# Altium footprint library Diod.PcbLib: 392 footprints (part 2 of 25)
Each footprint in its own frame and in the unit in brackets; x right, y up, seen from the top. Pads: shape width x height; smd on the part's side, far side on the other; paste and mask are expansions set on the pad; w line width, h text height; cw(c..) or ccw(c..) is an arc to the next point about the centre after c.
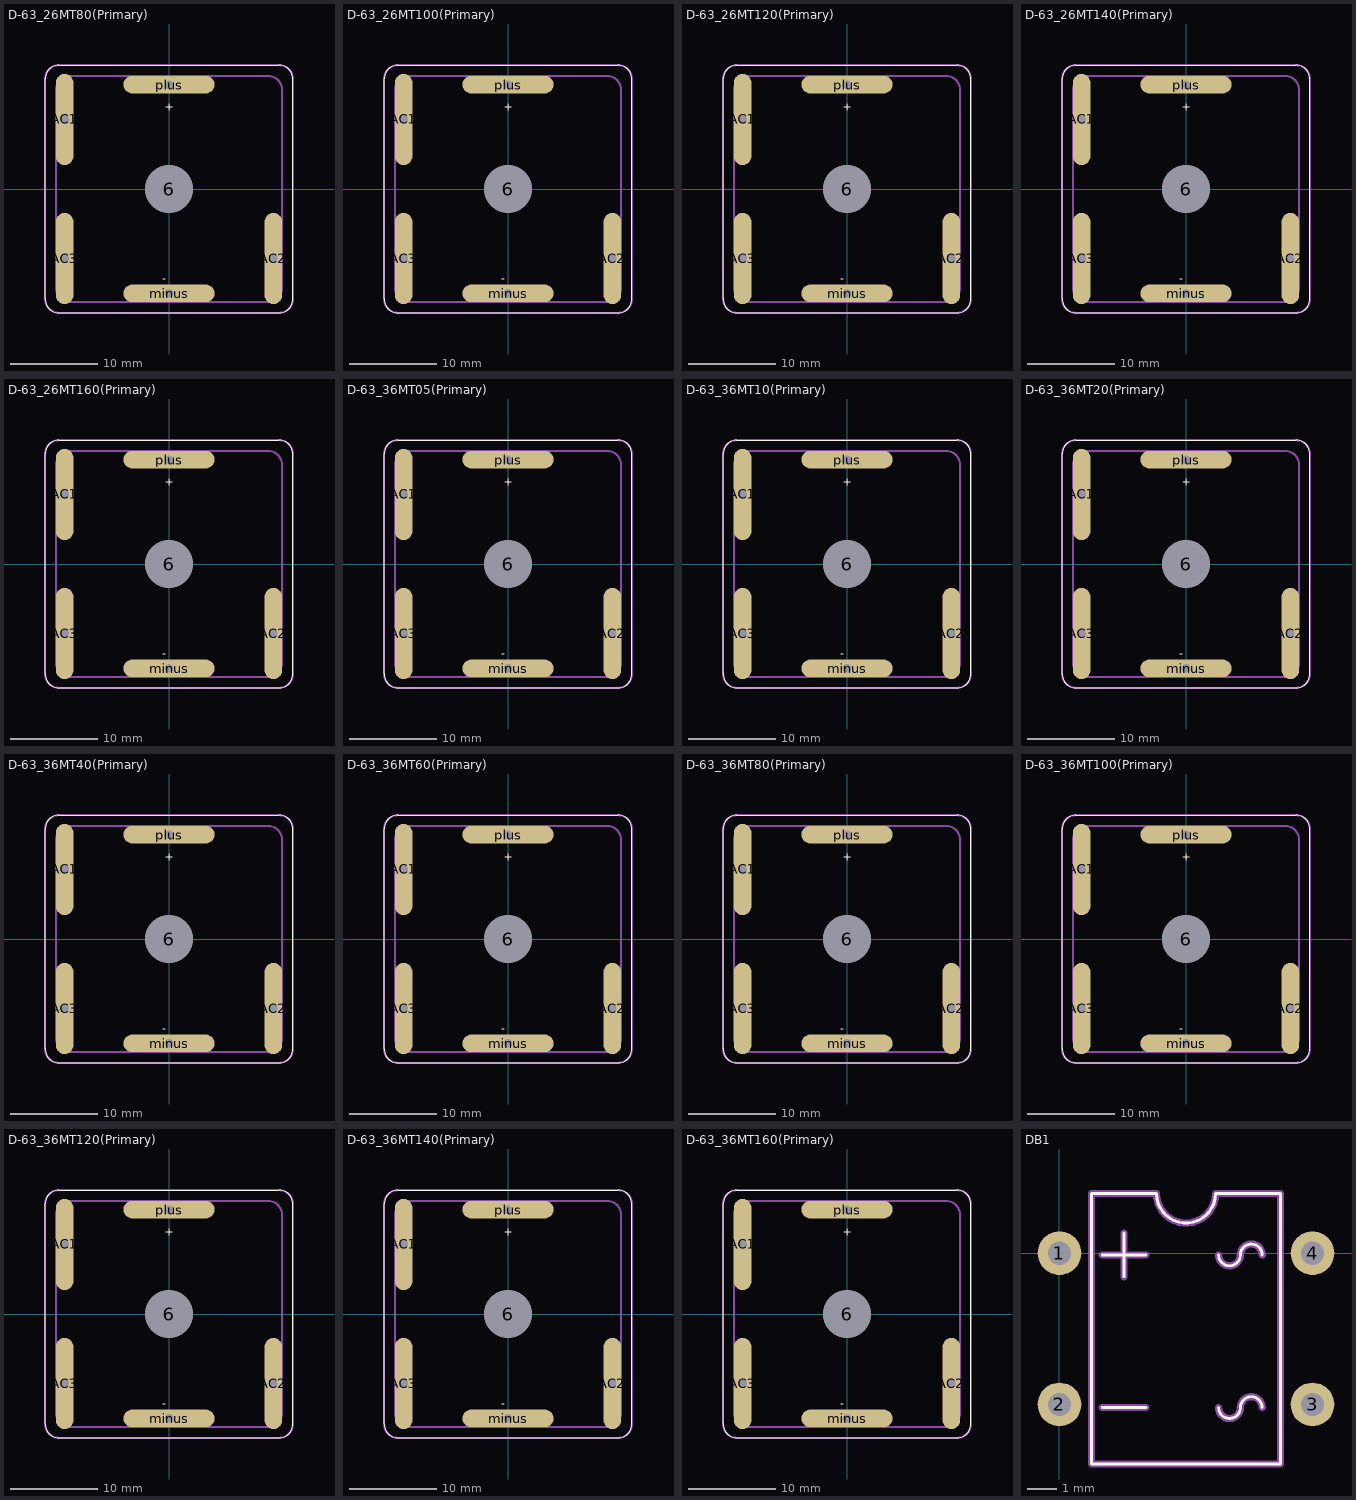
[diagram p1: the footprints below, top view; thin cyan lines are the x and y axes]

## D-63_26MT80(Primary) [mm]
pads (6):
  round 5.5 hole 5.5 unplated: 6(0,0)
  oval 2x10.5 hole 1: AC1(-12,8) AC2(12,-8) AC3(-12,-8)
  oval 10.5x2 hole 1: minus(0,-12) plus(0,12)
Top Overlay:
  lines w0.1: -14.25,-12.65 ccw(c-12.65,-12.65) -12.65,-14.25 12.65,-14.25 ccw(c12.65,-12.65) 14.25,-12.65 14.25,12.65 ccw(c12.65,12.65) 12.65,14.25 -12.65,14.25 ccw(c-12.65,12.65) -14.25,12.65 -14.25,-12.65
  text "+" at -0.5,9 h0.94
  text "-" at -0.75,-10.75 h0.94
Keep-Out Layer:
  lines w0.25: -12.5,-11.75 ccw(c-12,-11.75) -11.5,-11.75 -11.5,-4.25 ccw(c-12,-4.25) -12.5,-4.25 -12.5,-11.75 ; -12.5,4.25 ccw(c-12,4.25) -11.5,4.25 -11.5,11.75 ccw(c-12,11.75) -12.5,11.75 -12.5,4.25 ; -3.75,-12.5 cw(c-3.75,-12) -3.75,-11.5 3.75,-11.5 cw(c3.75,-12) 3.75,-12.5 -3.75,-12.5 ; -3.75,11.5 cw(c-3.75,12) -3.75,12.5 3.75,12.5 cw(c3.75,12) 3.75,11.5 -3.75,11.5 ; 11.5,-11.75 ccw(c12,-11.75) 12.5,-11.75 12.5,-4.25 ccw(c12,-4.25) 11.5,-4.25 11.5,-11.75
Mechanical 1:
  lines w0.25: -14.25,-12.65 ccw(c-12.65,-12.65) -12.65,-14.25 12.65,-14.25 ccw(c12.65,-12.65) 14.25,-12.65 14.25,12.65 ccw(c12.65,12.65) 12.65,14.25 -12.65,14.25 ccw(c-12.65,12.65) -14.25,12.65 -14.25,-12.65 ; -13,-11.4 ccw(c-11.4,-11.4) -11.4,-13 11.4,-13 ccw(c11.4,-11.4) 13,-11.4 13,11.4 ccw(c11.4,11.4) 11.4,13 -11.4,13 ccw(c-11.4,11.4) -13,11.4 -13,-11.4

## D-63_26MT100(Primary) [mm]
pads (6):
  round 5.5 hole 5.5 unplated: 6(0,0)
  oval 2x10.5 hole 1: AC1(-12,8) AC2(12,-8) AC3(-12,-8)
  oval 10.5x2 hole 1: minus(0,-12) plus(0,12)
Top Overlay:
  lines w0.1: -14.25,-12.65 ccw(c-12.65,-12.65) -12.65,-14.25 12.65,-14.25 ccw(c12.65,-12.65) 14.25,-12.65 14.25,12.65 ccw(c12.65,12.65) 12.65,14.25 -12.65,14.25 ccw(c-12.65,12.65) -14.25,12.65 -14.25,-12.65
  text "+" at -0.5,9 h0.94
  text "-" at -0.75,-10.75 h0.94
Keep-Out Layer:
  lines w0.25: -12.5,-11.75 ccw(c-12,-11.75) -11.5,-11.75 -11.5,-4.25 ccw(c-12,-4.25) -12.5,-4.25 -12.5,-11.75 ; -12.5,4.25 ccw(c-12,4.25) -11.5,4.25 -11.5,11.75 ccw(c-12,11.75) -12.5,11.75 -12.5,4.25 ; -3.75,-12.5 cw(c-3.75,-12) -3.75,-11.5 3.75,-11.5 cw(c3.75,-12) 3.75,-12.5 -3.75,-12.5 ; -3.75,11.5 cw(c-3.75,12) -3.75,12.5 3.75,12.5 cw(c3.75,12) 3.75,11.5 -3.75,11.5 ; 11.5,-11.75 ccw(c12,-11.75) 12.5,-11.75 12.5,-4.25 ccw(c12,-4.25) 11.5,-4.25 11.5,-11.75
Mechanical 1:
  lines w0.25: -14.25,-12.65 ccw(c-12.65,-12.65) -12.65,-14.25 12.65,-14.25 ccw(c12.65,-12.65) 14.25,-12.65 14.25,12.65 ccw(c12.65,12.65) 12.65,14.25 -12.65,14.25 ccw(c-12.65,12.65) -14.25,12.65 -14.25,-12.65 ; -13,-11.4 ccw(c-11.4,-11.4) -11.4,-13 11.4,-13 ccw(c11.4,-11.4) 13,-11.4 13,11.4 ccw(c11.4,11.4) 11.4,13 -11.4,13 ccw(c-11.4,11.4) -13,11.4 -13,-11.4

## D-63_26MT120(Primary) [mm]
pads (6):
  round 5.5 hole 5.5 unplated: 6(0,0)
  oval 2x10.5 hole 1: AC1(-12,8) AC2(12,-8) AC3(-12,-8)
  oval 10.5x2 hole 1: minus(0,-12) plus(0,12)
Top Overlay:
  lines w0.1: -14.25,-12.65 ccw(c-12.65,-12.65) -12.65,-14.25 12.65,-14.25 ccw(c12.65,-12.65) 14.25,-12.65 14.25,12.65 ccw(c12.65,12.65) 12.65,14.25 -12.65,14.25 ccw(c-12.65,12.65) -14.25,12.65 -14.25,-12.65
  text "+" at -0.5,9 h0.94
  text "-" at -0.75,-10.75 h0.94
Keep-Out Layer:
  lines w0.25: -12.5,-11.75 ccw(c-12,-11.75) -11.5,-11.75 -11.5,-4.25 ccw(c-12,-4.25) -12.5,-4.25 -12.5,-11.75 ; -12.5,4.25 ccw(c-12,4.25) -11.5,4.25 -11.5,11.75 ccw(c-12,11.75) -12.5,11.75 -12.5,4.25 ; -3.75,-12.5 cw(c-3.75,-12) -3.75,-11.5 3.75,-11.5 cw(c3.75,-12) 3.75,-12.5 -3.75,-12.5 ; -3.75,11.5 cw(c-3.75,12) -3.75,12.5 3.75,12.5 cw(c3.75,12) 3.75,11.5 -3.75,11.5 ; 11.5,-11.75 ccw(c12,-11.75) 12.5,-11.75 12.5,-4.25 ccw(c12,-4.25) 11.5,-4.25 11.5,-11.75
Mechanical 1:
  lines w0.25: -14.25,-12.65 ccw(c-12.65,-12.65) -12.65,-14.25 12.65,-14.25 ccw(c12.65,-12.65) 14.25,-12.65 14.25,12.65 ccw(c12.65,12.65) 12.65,14.25 -12.65,14.25 ccw(c-12.65,12.65) -14.25,12.65 -14.25,-12.65 ; -13,-11.4 ccw(c-11.4,-11.4) -11.4,-13 11.4,-13 ccw(c11.4,-11.4) 13,-11.4 13,11.4 ccw(c11.4,11.4) 11.4,13 -11.4,13 ccw(c-11.4,11.4) -13,11.4 -13,-11.4

## D-63_26MT140(Primary) [mm]
pads (6):
  round 5.5 hole 5.5 unplated: 6(0,0)
  oval 2x10.5 hole 1: AC1(-12,8) AC2(12,-8) AC3(-12,-8)
  oval 10.5x2 hole 1: minus(0,-12) plus(0,12)
Top Overlay:
  lines w0.1: -14.25,-12.65 ccw(c-12.65,-12.65) -12.65,-14.25 12.65,-14.25 ccw(c12.65,-12.65) 14.25,-12.65 14.25,12.65 ccw(c12.65,12.65) 12.65,14.25 -12.65,14.25 ccw(c-12.65,12.65) -14.25,12.65 -14.25,-12.65
  text "+" at -0.5,9 h0.94
  text "-" at -0.75,-10.75 h0.94
Keep-Out Layer:
  lines w0.25: -12.5,-11.75 ccw(c-12,-11.75) -11.5,-11.75 -11.5,-4.25 ccw(c-12,-4.25) -12.5,-4.25 -12.5,-11.75 ; -12.5,4.25 ccw(c-12,4.25) -11.5,4.25 -11.5,11.75 ccw(c-12,11.75) -12.5,11.75 -12.5,4.25 ; -3.75,-12.5 cw(c-3.75,-12) -3.75,-11.5 3.75,-11.5 cw(c3.75,-12) 3.75,-12.5 -3.75,-12.5 ; -3.75,11.5 cw(c-3.75,12) -3.75,12.5 3.75,12.5 cw(c3.75,12) 3.75,11.5 -3.75,11.5 ; 11.5,-11.75 ccw(c12,-11.75) 12.5,-11.75 12.5,-4.25 ccw(c12,-4.25) 11.5,-4.25 11.5,-11.75
Mechanical 1:
  lines w0.25: -14.25,-12.65 ccw(c-12.65,-12.65) -12.65,-14.25 12.65,-14.25 ccw(c12.65,-12.65) 14.25,-12.65 14.25,12.65 ccw(c12.65,12.65) 12.65,14.25 -12.65,14.25 ccw(c-12.65,12.65) -14.25,12.65 -14.25,-12.65 ; -13,-11.4 ccw(c-11.4,-11.4) -11.4,-13 11.4,-13 ccw(c11.4,-11.4) 13,-11.4 13,11.4 ccw(c11.4,11.4) 11.4,13 -11.4,13 ccw(c-11.4,11.4) -13,11.4 -13,-11.4

## D-63_26MT160(Primary) [mm]
pads (6):
  round 5.5 hole 5.5 unplated: 6(0,0)
  oval 2x10.5 hole 1: AC1(-12,8) AC2(12,-8) AC3(-12,-8)
  oval 10.5x2 hole 1: minus(0,-12) plus(0,12)
Top Overlay:
  lines w0.1: -14.25,-12.65 ccw(c-12.65,-12.65) -12.65,-14.25 12.65,-14.25 ccw(c12.65,-12.65) 14.25,-12.65 14.25,12.65 ccw(c12.65,12.65) 12.65,14.25 -12.65,14.25 ccw(c-12.65,12.65) -14.25,12.65 -14.25,-12.65
  text "+" at -0.5,9 h0.94
  text "-" at -0.75,-10.75 h0.94
Keep-Out Layer:
  lines w0.25: -12.5,-11.75 ccw(c-12,-11.75) -11.5,-11.75 -11.5,-4.25 ccw(c-12,-4.25) -12.5,-4.25 -12.5,-11.75 ; -12.5,4.25 ccw(c-12,4.25) -11.5,4.25 -11.5,11.75 ccw(c-12,11.75) -12.5,11.75 -12.5,4.25 ; -3.75,-12.5 cw(c-3.75,-12) -3.75,-11.5 3.75,-11.5 cw(c3.75,-12) 3.75,-12.5 -3.75,-12.5 ; -3.75,11.5 cw(c-3.75,12) -3.75,12.5 3.75,12.5 cw(c3.75,12) 3.75,11.5 -3.75,11.5 ; 11.5,-11.75 ccw(c12,-11.75) 12.5,-11.75 12.5,-4.25 ccw(c12,-4.25) 11.5,-4.25 11.5,-11.75
Mechanical 1:
  lines w0.25: -14.25,-12.65 ccw(c-12.65,-12.65) -12.65,-14.25 12.65,-14.25 ccw(c12.65,-12.65) 14.25,-12.65 14.25,12.65 ccw(c12.65,12.65) 12.65,14.25 -12.65,14.25 ccw(c-12.65,12.65) -14.25,12.65 -14.25,-12.65 ; -13,-11.4 ccw(c-11.4,-11.4) -11.4,-13 11.4,-13 ccw(c11.4,-11.4) 13,-11.4 13,11.4 ccw(c11.4,11.4) 11.4,13 -11.4,13 ccw(c-11.4,11.4) -13,11.4 -13,-11.4

## D-63_36MT05(Primary) [mm]
pads (6):
  round 5.5 hole 5.5 unplated: 6(0,0)
  oval 2x10.5 hole 1: AC1(-12,8) AC2(12,-8) AC3(-12,-8)
  oval 10.5x2 hole 1: minus(0,-12) plus(0,12)
Top Overlay:
  lines w0.1: -14.25,-12.65 ccw(c-12.65,-12.65) -12.65,-14.25 12.65,-14.25 ccw(c12.65,-12.65) 14.25,-12.65 14.25,12.65 ccw(c12.65,12.65) 12.65,14.25 -12.65,14.25 ccw(c-12.65,12.65) -14.25,12.65 -14.25,-12.65
  text "+" at -0.5,9 h0.94
  text "-" at -0.75,-10.75 h0.94
Keep-Out Layer:
  lines w0.25: -12.5,-11.75 ccw(c-12,-11.75) -11.5,-11.75 -11.5,-4.25 ccw(c-12,-4.25) -12.5,-4.25 -12.5,-11.75 ; -12.5,4.25 ccw(c-12,4.25) -11.5,4.25 -11.5,11.75 ccw(c-12,11.75) -12.5,11.75 -12.5,4.25 ; -3.75,-12.5 cw(c-3.75,-12) -3.75,-11.5 3.75,-11.5 cw(c3.75,-12) 3.75,-12.5 -3.75,-12.5 ; -3.75,11.5 cw(c-3.75,12) -3.75,12.5 3.75,12.5 cw(c3.75,12) 3.75,11.5 -3.75,11.5 ; 11.5,-11.75 ccw(c12,-11.75) 12.5,-11.75 12.5,-4.25 ccw(c12,-4.25) 11.5,-4.25 11.5,-11.75
Mechanical 1:
  lines w0.25: -14.25,-12.65 ccw(c-12.65,-12.65) -12.65,-14.25 12.65,-14.25 ccw(c12.65,-12.65) 14.25,-12.65 14.25,12.65 ccw(c12.65,12.65) 12.65,14.25 -12.65,14.25 ccw(c-12.65,12.65) -14.25,12.65 -14.25,-12.65 ; -13,-11.4 ccw(c-11.4,-11.4) -11.4,-13 11.4,-13 ccw(c11.4,-11.4) 13,-11.4 13,11.4 ccw(c11.4,11.4) 11.4,13 -11.4,13 ccw(c-11.4,11.4) -13,11.4 -13,-11.4

## D-63_36MT10(Primary) [mm]
pads (6):
  round 5.5 hole 5.5 unplated: 6(0,0)
  oval 2x10.5 hole 1: AC1(-12,8) AC2(12,-8) AC3(-12,-8)
  oval 10.5x2 hole 1: minus(0,-12) plus(0,12)
Top Overlay:
  lines w0.1: -14.25,-12.65 ccw(c-12.65,-12.65) -12.65,-14.25 12.65,-14.25 ccw(c12.65,-12.65) 14.25,-12.65 14.25,12.65 ccw(c12.65,12.65) 12.65,14.25 -12.65,14.25 ccw(c-12.65,12.65) -14.25,12.65 -14.25,-12.65
  text "+" at -0.5,9 h0.94
  text "-" at -0.75,-10.75 h0.94
Keep-Out Layer:
  lines w0.25: -12.5,-11.75 ccw(c-12,-11.75) -11.5,-11.75 -11.5,-4.25 ccw(c-12,-4.25) -12.5,-4.25 -12.5,-11.75 ; -12.5,4.25 ccw(c-12,4.25) -11.5,4.25 -11.5,11.75 ccw(c-12,11.75) -12.5,11.75 -12.5,4.25 ; -3.75,-12.5 cw(c-3.75,-12) -3.75,-11.5 3.75,-11.5 cw(c3.75,-12) 3.75,-12.5 -3.75,-12.5 ; -3.75,11.5 cw(c-3.75,12) -3.75,12.5 3.75,12.5 cw(c3.75,12) 3.75,11.5 -3.75,11.5 ; 11.5,-11.75 ccw(c12,-11.75) 12.5,-11.75 12.5,-4.25 ccw(c12,-4.25) 11.5,-4.25 11.5,-11.75
Mechanical 1:
  lines w0.25: -14.25,-12.65 ccw(c-12.65,-12.65) -12.65,-14.25 12.65,-14.25 ccw(c12.65,-12.65) 14.25,-12.65 14.25,12.65 ccw(c12.65,12.65) 12.65,14.25 -12.65,14.25 ccw(c-12.65,12.65) -14.25,12.65 -14.25,-12.65 ; -13,-11.4 ccw(c-11.4,-11.4) -11.4,-13 11.4,-13 ccw(c11.4,-11.4) 13,-11.4 13,11.4 ccw(c11.4,11.4) 11.4,13 -11.4,13 ccw(c-11.4,11.4) -13,11.4 -13,-11.4

## D-63_36MT20(Primary) [mm]
pads (6):
  round 5.5 hole 5.5 unplated: 6(0,0)
  oval 2x10.5 hole 1: AC1(-12,8) AC2(12,-8) AC3(-12,-8)
  oval 10.5x2 hole 1: minus(0,-12) plus(0,12)
Top Overlay:
  lines w0.1: -14.25,-12.65 ccw(c-12.65,-12.65) -12.65,-14.25 12.65,-14.25 ccw(c12.65,-12.65) 14.25,-12.65 14.25,12.65 ccw(c12.65,12.65) 12.65,14.25 -12.65,14.25 ccw(c-12.65,12.65) -14.25,12.65 -14.25,-12.65
  text "+" at -0.5,9 h0.94
  text "-" at -0.75,-10.75 h0.94
Keep-Out Layer:
  lines w0.25: -12.5,-11.75 ccw(c-12,-11.75) -11.5,-11.75 -11.5,-4.25 ccw(c-12,-4.25) -12.5,-4.25 -12.5,-11.75 ; -12.5,4.25 ccw(c-12,4.25) -11.5,4.25 -11.5,11.75 ccw(c-12,11.75) -12.5,11.75 -12.5,4.25 ; -3.75,-12.5 cw(c-3.75,-12) -3.75,-11.5 3.75,-11.5 cw(c3.75,-12) 3.75,-12.5 -3.75,-12.5 ; -3.75,11.5 cw(c-3.75,12) -3.75,12.5 3.75,12.5 cw(c3.75,12) 3.75,11.5 -3.75,11.5 ; 11.5,-11.75 ccw(c12,-11.75) 12.5,-11.75 12.5,-4.25 ccw(c12,-4.25) 11.5,-4.25 11.5,-11.75
Mechanical 1:
  lines w0.25: -14.25,-12.65 ccw(c-12.65,-12.65) -12.65,-14.25 12.65,-14.25 ccw(c12.65,-12.65) 14.25,-12.65 14.25,12.65 ccw(c12.65,12.65) 12.65,14.25 -12.65,14.25 ccw(c-12.65,12.65) -14.25,12.65 -14.25,-12.65 ; -13,-11.4 ccw(c-11.4,-11.4) -11.4,-13 11.4,-13 ccw(c11.4,-11.4) 13,-11.4 13,11.4 ccw(c11.4,11.4) 11.4,13 -11.4,13 ccw(c-11.4,11.4) -13,11.4 -13,-11.4

## D-63_36MT40(Primary) [mm]
pads (6):
  round 5.5 hole 5.5 unplated: 6(0,0)
  oval 2x10.5 hole 1: AC1(-12,8) AC2(12,-8) AC3(-12,-8)
  oval 10.5x2 hole 1: minus(0,-12) plus(0,12)
Top Overlay:
  lines w0.1: -14.25,-12.65 ccw(c-12.65,-12.65) -12.65,-14.25 12.65,-14.25 ccw(c12.65,-12.65) 14.25,-12.65 14.25,12.65 ccw(c12.65,12.65) 12.65,14.25 -12.65,14.25 ccw(c-12.65,12.65) -14.25,12.65 -14.25,-12.65
  text "+" at -0.5,9 h0.94
  text "-" at -0.75,-10.75 h0.94
Keep-Out Layer:
  lines w0.25: -12.5,-11.75 ccw(c-12,-11.75) -11.5,-11.75 -11.5,-4.25 ccw(c-12,-4.25) -12.5,-4.25 -12.5,-11.75 ; -12.5,4.25 ccw(c-12,4.25) -11.5,4.25 -11.5,11.75 ccw(c-12,11.75) -12.5,11.75 -12.5,4.25 ; -3.75,-12.5 cw(c-3.75,-12) -3.75,-11.5 3.75,-11.5 cw(c3.75,-12) 3.75,-12.5 -3.75,-12.5 ; -3.75,11.5 cw(c-3.75,12) -3.75,12.5 3.75,12.5 cw(c3.75,12) 3.75,11.5 -3.75,11.5 ; 11.5,-11.75 ccw(c12,-11.75) 12.5,-11.75 12.5,-4.25 ccw(c12,-4.25) 11.5,-4.25 11.5,-11.75
Mechanical 1:
  lines w0.25: -14.25,-12.65 ccw(c-12.65,-12.65) -12.65,-14.25 12.65,-14.25 ccw(c12.65,-12.65) 14.25,-12.65 14.25,12.65 ccw(c12.65,12.65) 12.65,14.25 -12.65,14.25 ccw(c-12.65,12.65) -14.25,12.65 -14.25,-12.65 ; -13,-11.4 ccw(c-11.4,-11.4) -11.4,-13 11.4,-13 ccw(c11.4,-11.4) 13,-11.4 13,11.4 ccw(c11.4,11.4) 11.4,13 -11.4,13 ccw(c-11.4,11.4) -13,11.4 -13,-11.4

## D-63_36MT60(Primary) [mm]
pads (6):
  round 5.5 hole 5.5 unplated: 6(0,0)
  oval 2x10.5 hole 1: AC1(-12,8) AC2(12,-8) AC3(-12,-8)
  oval 10.5x2 hole 1: minus(0,-12) plus(0,12)
Top Overlay:
  lines w0.1: -14.25,-12.65 ccw(c-12.65,-12.65) -12.65,-14.25 12.65,-14.25 ccw(c12.65,-12.65) 14.25,-12.65 14.25,12.65 ccw(c12.65,12.65) 12.65,14.25 -12.65,14.25 ccw(c-12.65,12.65) -14.25,12.65 -14.25,-12.65
  text "+" at -0.5,9 h0.94
  text "-" at -0.75,-10.75 h0.94
Keep-Out Layer:
  lines w0.25: -12.5,-11.75 ccw(c-12,-11.75) -11.5,-11.75 -11.5,-4.25 ccw(c-12,-4.25) -12.5,-4.25 -12.5,-11.75 ; -12.5,4.25 ccw(c-12,4.25) -11.5,4.25 -11.5,11.75 ccw(c-12,11.75) -12.5,11.75 -12.5,4.25 ; -3.75,-12.5 cw(c-3.75,-12) -3.75,-11.5 3.75,-11.5 cw(c3.75,-12) 3.75,-12.5 -3.75,-12.5 ; -3.75,11.5 cw(c-3.75,12) -3.75,12.5 3.75,12.5 cw(c3.75,12) 3.75,11.5 -3.75,11.5 ; 11.5,-11.75 ccw(c12,-11.75) 12.5,-11.75 12.5,-4.25 ccw(c12,-4.25) 11.5,-4.25 11.5,-11.75
Mechanical 1:
  lines w0.25: -14.25,-12.65 ccw(c-12.65,-12.65) -12.65,-14.25 12.65,-14.25 ccw(c12.65,-12.65) 14.25,-12.65 14.25,12.65 ccw(c12.65,12.65) 12.65,14.25 -12.65,14.25 ccw(c-12.65,12.65) -14.25,12.65 -14.25,-12.65 ; -13,-11.4 ccw(c-11.4,-11.4) -11.4,-13 11.4,-13 ccw(c11.4,-11.4) 13,-11.4 13,11.4 ccw(c11.4,11.4) 11.4,13 -11.4,13 ccw(c-11.4,11.4) -13,11.4 -13,-11.4

## D-63_36MT80(Primary) [mm]
pads (6):
  round 5.5 hole 5.5 unplated: 6(0,0)
  oval 2x10.5 hole 1: AC1(-12,8) AC2(12,-8) AC3(-12,-8)
  oval 10.5x2 hole 1: minus(0,-12) plus(0,12)
Top Overlay:
  lines w0.1: -14.25,-12.65 ccw(c-12.65,-12.65) -12.65,-14.25 12.65,-14.25 ccw(c12.65,-12.65) 14.25,-12.65 14.25,12.65 ccw(c12.65,12.65) 12.65,14.25 -12.65,14.25 ccw(c-12.65,12.65) -14.25,12.65 -14.25,-12.65
  text "+" at -0.5,9 h0.94
  text "-" at -0.75,-10.75 h0.94
Keep-Out Layer:
  lines w0.25: -12.5,-11.75 ccw(c-12,-11.75) -11.5,-11.75 -11.5,-4.25 ccw(c-12,-4.25) -12.5,-4.25 -12.5,-11.75 ; -12.5,4.25 ccw(c-12,4.25) -11.5,4.25 -11.5,11.75 ccw(c-12,11.75) -12.5,11.75 -12.5,4.25 ; -3.75,-12.5 cw(c-3.75,-12) -3.75,-11.5 3.75,-11.5 cw(c3.75,-12) 3.75,-12.5 -3.75,-12.5 ; -3.75,11.5 cw(c-3.75,12) -3.75,12.5 3.75,12.5 cw(c3.75,12) 3.75,11.5 -3.75,11.5 ; 11.5,-11.75 ccw(c12,-11.75) 12.5,-11.75 12.5,-4.25 ccw(c12,-4.25) 11.5,-4.25 11.5,-11.75
Mechanical 1:
  lines w0.25: -14.25,-12.65 ccw(c-12.65,-12.65) -12.65,-14.25 12.65,-14.25 ccw(c12.65,-12.65) 14.25,-12.65 14.25,12.65 ccw(c12.65,12.65) 12.65,14.25 -12.65,14.25 ccw(c-12.65,12.65) -14.25,12.65 -14.25,-12.65 ; -13,-11.4 ccw(c-11.4,-11.4) -11.4,-13 11.4,-13 ccw(c11.4,-11.4) 13,-11.4 13,11.4 ccw(c11.4,11.4) 11.4,13 -11.4,13 ccw(c-11.4,11.4) -13,11.4 -13,-11.4

## D-63_36MT100(Primary) [mm]
pads (6):
  round 5.5 hole 5.5 unplated: 6(0,0)
  oval 2x10.5 hole 1: AC1(-12,8) AC2(12,-8) AC3(-12,-8)
  oval 10.5x2 hole 1: minus(0,-12) plus(0,12)
Top Overlay:
  lines w0.1: -14.25,-12.65 ccw(c-12.65,-12.65) -12.65,-14.25 12.65,-14.25 ccw(c12.65,-12.65) 14.25,-12.65 14.25,12.65 ccw(c12.65,12.65) 12.65,14.25 -12.65,14.25 ccw(c-12.65,12.65) -14.25,12.65 -14.25,-12.65
  text "+" at -0.5,9 h0.94
  text "-" at -0.75,-10.75 h0.94
Keep-Out Layer:
  lines w0.25: -12.5,-11.75 ccw(c-12,-11.75) -11.5,-11.75 -11.5,-4.25 ccw(c-12,-4.25) -12.5,-4.25 -12.5,-11.75 ; -12.5,4.25 ccw(c-12,4.25) -11.5,4.25 -11.5,11.75 ccw(c-12,11.75) -12.5,11.75 -12.5,4.25 ; -3.75,-12.5 cw(c-3.75,-12) -3.75,-11.5 3.75,-11.5 cw(c3.75,-12) 3.75,-12.5 -3.75,-12.5 ; -3.75,11.5 cw(c-3.75,12) -3.75,12.5 3.75,12.5 cw(c3.75,12) 3.75,11.5 -3.75,11.5 ; 11.5,-11.75 ccw(c12,-11.75) 12.5,-11.75 12.5,-4.25 ccw(c12,-4.25) 11.5,-4.25 11.5,-11.75
Mechanical 1:
  lines w0.25: -14.25,-12.65 ccw(c-12.65,-12.65) -12.65,-14.25 12.65,-14.25 ccw(c12.65,-12.65) 14.25,-12.65 14.25,12.65 ccw(c12.65,12.65) 12.65,14.25 -12.65,14.25 ccw(c-12.65,12.65) -14.25,12.65 -14.25,-12.65 ; -13,-11.4 ccw(c-11.4,-11.4) -11.4,-13 11.4,-13 ccw(c11.4,-11.4) 13,-11.4 13,11.4 ccw(c11.4,11.4) 11.4,13 -11.4,13 ccw(c-11.4,11.4) -13,11.4 -13,-11.4

## D-63_36MT120(Primary) [mm]
pads (6):
  round 5.5 hole 5.5 unplated: 6(0,0)
  oval 2x10.5 hole 1: AC1(-12,8) AC2(12,-8) AC3(-12,-8)
  oval 10.5x2 hole 1: minus(0,-12) plus(0,12)
Top Overlay:
  lines w0.1: -14.25,-12.65 ccw(c-12.65,-12.65) -12.65,-14.25 12.65,-14.25 ccw(c12.65,-12.65) 14.25,-12.65 14.25,12.65 ccw(c12.65,12.65) 12.65,14.25 -12.65,14.25 ccw(c-12.65,12.65) -14.25,12.65 -14.25,-12.65
  text "+" at -0.5,9 h0.94
  text "-" at -0.75,-10.75 h0.94
Keep-Out Layer:
  lines w0.25: -12.5,-11.75 ccw(c-12,-11.75) -11.5,-11.75 -11.5,-4.25 ccw(c-12,-4.25) -12.5,-4.25 -12.5,-11.75 ; -12.5,4.25 ccw(c-12,4.25) -11.5,4.25 -11.5,11.75 ccw(c-12,11.75) -12.5,11.75 -12.5,4.25 ; -3.75,-12.5 cw(c-3.75,-12) -3.75,-11.5 3.75,-11.5 cw(c3.75,-12) 3.75,-12.5 -3.75,-12.5 ; -3.75,11.5 cw(c-3.75,12) -3.75,12.5 3.75,12.5 cw(c3.75,12) 3.75,11.5 -3.75,11.5 ; 11.5,-11.75 ccw(c12,-11.75) 12.5,-11.75 12.5,-4.25 ccw(c12,-4.25) 11.5,-4.25 11.5,-11.75
Mechanical 1:
  lines w0.25: -14.25,-12.65 ccw(c-12.65,-12.65) -12.65,-14.25 12.65,-14.25 ccw(c12.65,-12.65) 14.25,-12.65 14.25,12.65 ccw(c12.65,12.65) 12.65,14.25 -12.65,14.25 ccw(c-12.65,12.65) -14.25,12.65 -14.25,-12.65 ; -13,-11.4 ccw(c-11.4,-11.4) -11.4,-13 11.4,-13 ccw(c11.4,-11.4) 13,-11.4 13,11.4 ccw(c11.4,11.4) 11.4,13 -11.4,13 ccw(c-11.4,11.4) -13,11.4 -13,-11.4

## D-63_36MT140(Primary) [mm]
pads (6):
  round 5.5 hole 5.5 unplated: 6(0,0)
  oval 2x10.5 hole 1: AC1(-12,8) AC2(12,-8) AC3(-12,-8)
  oval 10.5x2 hole 1: minus(0,-12) plus(0,12)
Top Overlay:
  lines w0.1: -14.25,-12.65 ccw(c-12.65,-12.65) -12.65,-14.25 12.65,-14.25 ccw(c12.65,-12.65) 14.25,-12.65 14.25,12.65 ccw(c12.65,12.65) 12.65,14.25 -12.65,14.25 ccw(c-12.65,12.65) -14.25,12.65 -14.25,-12.65
  text "+" at -0.5,9 h0.94
  text "-" at -0.75,-10.75 h0.94
Keep-Out Layer:
  lines w0.25: -12.5,-11.75 ccw(c-12,-11.75) -11.5,-11.75 -11.5,-4.25 ccw(c-12,-4.25) -12.5,-4.25 -12.5,-11.75 ; -12.5,4.25 ccw(c-12,4.25) -11.5,4.25 -11.5,11.75 ccw(c-12,11.75) -12.5,11.75 -12.5,4.25 ; -3.75,-12.5 cw(c-3.75,-12) -3.75,-11.5 3.75,-11.5 cw(c3.75,-12) 3.75,-12.5 -3.75,-12.5 ; -3.75,11.5 cw(c-3.75,12) -3.75,12.5 3.75,12.5 cw(c3.75,12) 3.75,11.5 -3.75,11.5 ; 11.5,-11.75 ccw(c12,-11.75) 12.5,-11.75 12.5,-4.25 ccw(c12,-4.25) 11.5,-4.25 11.5,-11.75
Mechanical 1:
  lines w0.25: -14.25,-12.65 ccw(c-12.65,-12.65) -12.65,-14.25 12.65,-14.25 ccw(c12.65,-12.65) 14.25,-12.65 14.25,12.65 ccw(c12.65,12.65) 12.65,14.25 -12.65,14.25 ccw(c-12.65,12.65) -14.25,12.65 -14.25,-12.65 ; -13,-11.4 ccw(c-11.4,-11.4) -11.4,-13 11.4,-13 ccw(c11.4,-11.4) 13,-11.4 13,11.4 ccw(c11.4,11.4) 11.4,13 -11.4,13 ccw(c-11.4,11.4) -13,11.4 -13,-11.4

## D-63_36MT160(Primary) [mm]
pads (6):
  round 5.5 hole 5.5 unplated: 6(0,0)
  oval 2x10.5 hole 1: AC1(-12,8) AC2(12,-8) AC3(-12,-8)
  oval 10.5x2 hole 1: minus(0,-12) plus(0,12)
Top Overlay:
  lines w0.1: -14.25,-12.65 ccw(c-12.65,-12.65) -12.65,-14.25 12.65,-14.25 ccw(c12.65,-12.65) 14.25,-12.65 14.25,12.65 ccw(c12.65,12.65) 12.65,14.25 -12.65,14.25 ccw(c-12.65,12.65) -14.25,12.65 -14.25,-12.65
  text "+" at -0.5,9 h0.94
  text "-" at -0.75,-10.75 h0.94
Keep-Out Layer:
  lines w0.25: -12.5,-11.75 ccw(c-12,-11.75) -11.5,-11.75 -11.5,-4.25 ccw(c-12,-4.25) -12.5,-4.25 -12.5,-11.75 ; -12.5,4.25 ccw(c-12,4.25) -11.5,4.25 -11.5,11.75 ccw(c-12,11.75) -12.5,11.75 -12.5,4.25 ; -3.75,-12.5 cw(c-3.75,-12) -3.75,-11.5 3.75,-11.5 cw(c3.75,-12) 3.75,-12.5 -3.75,-12.5 ; -3.75,11.5 cw(c-3.75,12) -3.75,12.5 3.75,12.5 cw(c3.75,12) 3.75,11.5 -3.75,11.5 ; 11.5,-11.75 ccw(c12,-11.75) 12.5,-11.75 12.5,-4.25 ccw(c12,-4.25) 11.5,-4.25 11.5,-11.75
Mechanical 1:
  lines w0.25: -14.25,-12.65 ccw(c-12.65,-12.65) -12.65,-14.25 12.65,-14.25 ccw(c12.65,-12.65) 14.25,-12.65 14.25,12.65 ccw(c12.65,12.65) 12.65,14.25 -12.65,14.25 ccw(c-12.65,12.65) -14.25,12.65 -14.25,-12.65 ; -13,-11.4 ccw(c-11.4,-11.4) -11.4,-13 11.4,-13 ccw(c11.4,-11.4) 13,-11.4 13,11.4 ccw(c11.4,11.4) 11.4,13 -11.4,13 ccw(c-11.4,11.4) -13,11.4 -13,-11.4

## DB1 [mm]
pads (4):
  round 1.5 hole 0.8: 1(0,0) 2(0,-5.2) 3(8.7,-5.2) 4(8.7,0)
Top Overlay:
  lines w0.1: 1.47,-5.31 2.97,-5.31 ; 1.47,-0.06 2.97,-0.06 ; 2.22,-0.81 2.22,0.69 ; 5.47,-5.31 ccw(c5.845,-5.31) 6.22,-5.31 cw(c6.595,-5.31) 6.97,-5.31 ; 5.47,-0.06 ccw(c5.845,-0.06) 6.22,-0.06 cw(c6.595,-0.06) 6.97,-0.06 ; 1.1,-7.25 7.6,-7.25 7.6,2.05 5.366,2.05 cw(c4.35,2.05) 3.334,2.05 1.1,2.05 1.1,-7.25
Mechanical 1:
  lines w0.25: 1.47,-5.31 2.97,-5.31 ; 1.47,-0.06 2.97,-0.06 ; 2.22,-0.81 2.22,0.69 ; 5.47,-5.31 ccw(c5.845,-5.31) 6.22,-5.31 cw(c6.595,-5.31) 6.97,-5.31 ; 5.47,-0.06 ccw(c5.845,-0.06) 6.22,-0.06 cw(c6.595,-0.06) 6.97,-0.06 ; 1.1,-7.25 7.6,-7.25 7.6,2.05 5.366,2.05 cw(c4.35,2.05) 3.334,2.05 1.1,2.05 1.1,-7.25